# Altium footprint library MGJ3T24150505MCR7.PcbLib: 1 footprints
Each footprint in its own frame and in the unit in brackets; x right, y up, seen from the top. Pads: shape width x height; smd on the part's side, far side on the other; paste and mask are expansions set on the pad; w line width, h text height; cw(c..) or ccw(c..) is an arc to the next point about the centre after c.
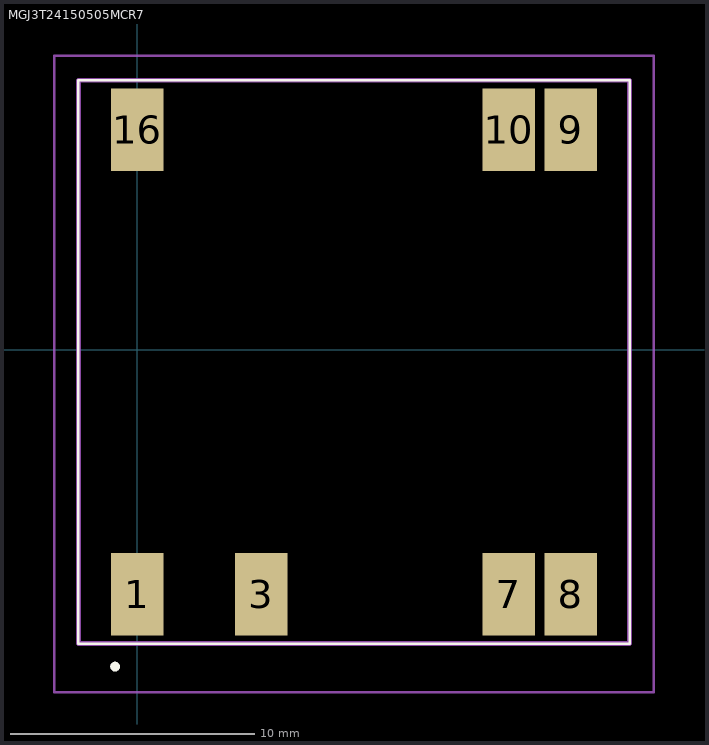
[diagram p0: the footprint, top view; thin cyan lines are the x and y axes]

## MGJ3T24150505MCR7 [mm]
pads (7):
  rect 2.16x3.38 smd: 1(0,-10.025) 3(5.08,-10.025) 7(15.24,-10.025) 8(17.78,-10.025) 9(17.78,9.025) 10(15.24,9.025) 16(0,9.025)
Top Overlay:
  lines w0.1: -2.415,-12.055 -2.415,11.055 20.195,11.055 20.195,-12.055 -2.415,-12.055
  lines w0.2: -1.01,-13 cw(c-0.91,-13) -0.81,-13 cw(c-0.91,-13) -1.01,-13
M5 Assembly Top (Mech13):
  lines w0.2: -2.415,-12.055 -2.415,11.055 20.195,11.055 20.195,-12.055 -2.415,-12.055
Mechanical 15:
  lines w0.1: -3.415,-14.05 -3.415,12.055 21.195,12.055 21.195,-14.05 -3.415,-14.05
3D body "MGJ3T24150505MC-R7.stp": height 14.74, standoff 0, extent -2.415,-12.055 20.195,11.055